# EAGLE library part HM-11 (library HM-11-ladvien)
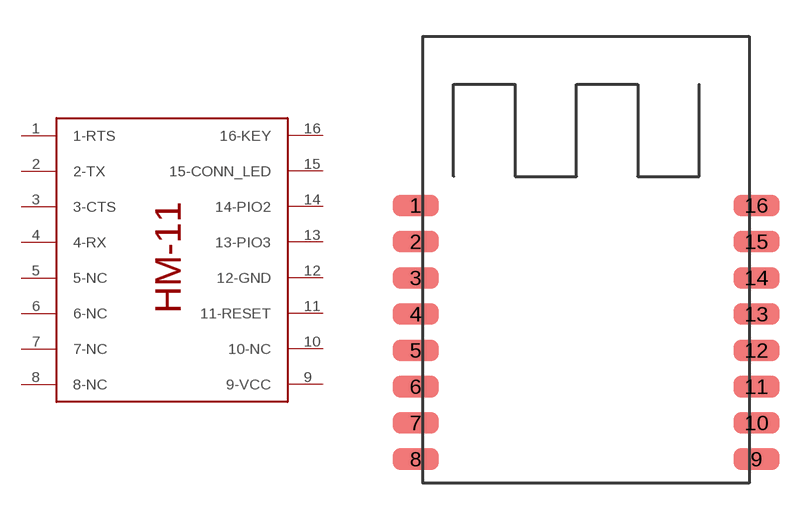
[diagram p0: symbol with the pads of HM-11; footprint HM-11]

Designator prefix -

## HM-11  [HM-11]
1  1-RTS
2  2-TX
3  3-CTS
4  4-RX
5  5-NC
6  6-NC
7  7-NC
8  8-NC
9  9-VCC
10  10-NC
11  11-RESET
12  12-GND
13  13-PIO3
14  14-PIO2
15  15-CONN_LED
16  16-KEY

## Footprint HM-11 (pad centres in mm)
smd 1.9 x 0.9: 1 -0.3,11.5; 2 -0.3,10; 3 -0.3,8.5; 4 -0.3,7; 5 -0.3,5.5; 6 -0.3,4; 7 -0.3,2.5; 8 -0.3,1; 9 13.8,1; 10 13.8,2.5; 11 13.8,4; 12 13.8,5.5; 13 13.8,7; 14 13.8,8.5; 15 13.8,10; 16 13.8,11.5